# Altium footprint library 5-534237-8.PCBLIB: 1 footprints
Each footprint in its own frame and in the unit in brackets; x right, y up, seen from the top. Pads: shape width x height; smd on the part's side, far side on the other; paste and mask are expansions set on the pad; w line width, h text height; cw(c..) or ccw(c..) is an arc to the next point about the centre after c.
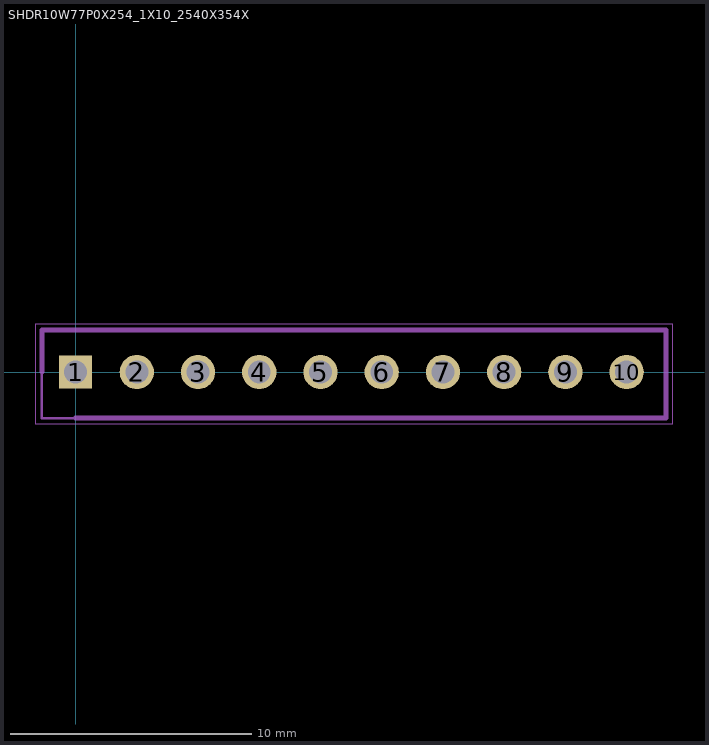
[diagram p0: the footprint, top view; thin cyan lines are the x and y axes]

## SHDR10W77P0X254_1X10_2540X354X [mil]
pads (10):
  rect 54.32x54.32 / inner rect 60x60 / far side rect 54.32x54.32 hole 37.4: 1(0,0)
  round 56.1 / inner round 60 / far side round 56.1 hole 37.4: 2(100,0) 3(200,0) 4(300,0) 5(400,0) 6(500,0) 7(600,0) 8(700,0) 9(800,0) 10(900,0)
Mechanical 8:
  lines w1.97: -64.96,-85.04 -64.96,78.74 974.41,78.74 974.41,-85.04 -64.96,-85.04
  lines w3.94: -55.12,-75.2 -55.12,68.9 964.57,68.9 964.57,-75.2 -55.12,-75.2
Mechanical 22:
  lines w7.87: -55.12,0 -55.12,68.9 964.57,68.9 964.57,-75.2 0,-75.2